# Altium schematic symbol library Passives.SchLib: 43 symbols
Pins are listed as number, name and electrical type; pins without a type are passive.

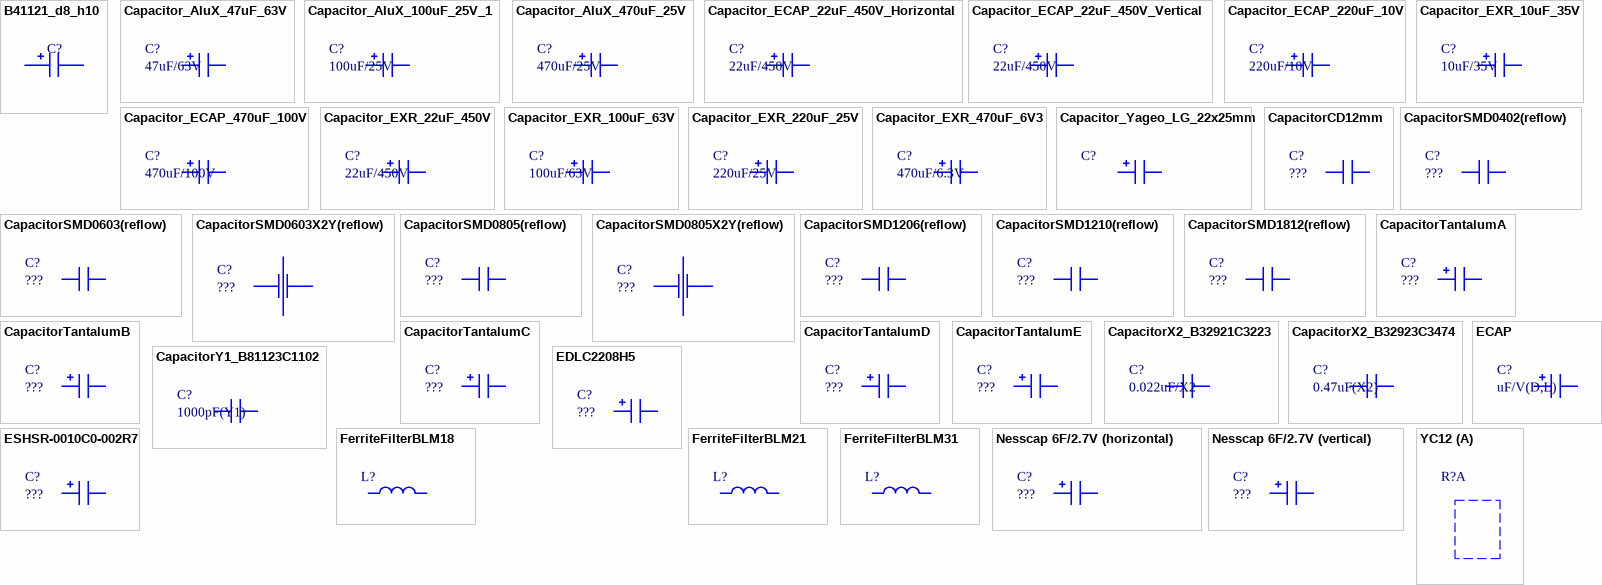
[diagram p0: symbols B41121_d8_h10 to YC12]

## B41121_d8_h10
designator C?
CAPACITOR Aluminum Electrolytic SMD d=8mm h=10mm; x: 100u35V: B41121A7107M000, 100u50v: B41121A6107M000; Описание: Конденсатор SMD; Аналог: *
footprint B41121_d8_h10(manual)
pins: 1, 2

## Capacitor_AluX_47uF_63V
designator C?, comment 47uF/63V
CAPACITOR Capacitor Elecrolytic 47uF 63V; Описание: Конденсатор электролитический; Аналог: нет
footprint CapacitorElectrolyticRadial8x12x3.5mm
pins: 1, 2

## Capacitor_AluX_100uF_25V_1
designator C?, comment 100uF/25V
CAPACITOR Capacitor Elecrolytic 100uF 25V Epcos B41828A5477M; Описание: Конденсатор электролитический 6.3x11x2.5мм; Аналог: нет
footprint CapacitorElectrolyticRadial6.3x11x2.5mm - duplicate
pins: 1, 2

## Capacitor_AluX_470uF_25V
designator C?, comment 470uF/25V
CAPACITOR Capacitor Elecrolytic 470uF 25V Epcos B41828A5477M; Описание: Конденсатор электролитический; Аналог: нет
footprint CapacitorElectrolyticRadial10x16x5mm
pins: 1, 2

## Capacitor_ECAP_22uF_450V_Horizontal
designator C?, comment 22uF/450V
CAPACITOR Capacitor Elecrolytic ECAP 22uF 450V; Описание: Конденсатор электролитический 16x25x7.5мм; Аналог: нет
footprint CapacitorElectrolyticRadial16x25x7.5mmHorizontal - duplicate
pins: 1, 2

## Capacitor_ECAP_22uF_450V_Vertical
designator C?, comment 22uF/450V
CAPACITOR Capacitor Elecrolytic ECAP 22uF 450V; Описание: Конденсатор электролитический; Аналог: нет
footprint CapacitorElectrolyticRadial16x25x7.5mmVertical
pins: 1, 2

## Capacitor_ECAP_220uF_10V
designator C?, comment 220uF/10V
CAPACITOR Capacitor Elecrolytic ECAP 220uF 10V (6.3x11mm); Описание: Конденсатор электролитический; Аналог: нет
footprint CapacitorElectrolyticRadial6.3x11x2.5mm
pins: 1, 2

## Capacitor_ECAP_470uF_100V
designator C?, comment 470uF/100V
CAPACITOR Capacitor Elecrolytic ECAP 470uF 100V (16x25mm); Описание: Конденсатор электролитический; Аналог: нет
footprint CapacitorElectrolyticRadial16x25x7.5mmVertical
footprint CapacitorElectrolyticRadial16x25x7.5mmHorizontal
pins: 1, 2

## Capacitor_EXR_10uF_35V
designator C?, comment 10uF/35V
CAPACITOR Capacitor Elecrolytic Hitano EXR 10uF 35V; Описание: Конденсатор электролитический 5x11x2мм; Аналог: нет
footprint CapacitorElectrolyticRadial5x11x2mm
pins: 1, 2

## Capacitor_EXR_22uF_450V
designator C?, comment 22uF/450V
CAPACITOR Capacitor Elecrolytic Hitano EXR 22uF 450V; Описание: Конденсатор электролитический 13x26x5мм; Аналог: нет
footprint CapacitorElectrolyticRadial13x26x5mmHorizontal
footprint CapacitorElectrolyticRadial13x26x5mm
pins: 1, 2

## Capacitor_EXR_100uF_63V
designator C?, comment 100uF/63V
CAPACITOR Capacitor Elecrolytic Hitano EXR 100uF 63V; Описание: Конденсатор электролитический 10x16x5мм; Аналог: нет
footprint CapacitorElectrolyticRadial10x16x5mm
pins: 1, 2

## Capacitor_EXR_220uF_25V
designator C?, comment 220uF/25V
CAPACITOR Capacitor Elecrolytic Hitano EXR 220uF 25V; Описание: Конденсатор электролитический 8x12x3.5мм; Аналог: нет
footprint CapacitorElectrolyticRadial8x12x3.5mm
pins: 1, 2

## Capacitor_EXR_470uF_6V3
designator C?, comment 470uF/6.3V
CAPACITOR Capacitor Elecrolytic Hitano EXR 470uF 6.3V; Описание: Конденсатор электролитический; Аналог: нет
footprint CapacitorElectrolyticRadial8x12x3.5mm
pins: 1, 2

## Capacitor_Yageo_LG_22x25mm
designator C?
CAPACITOR Capacitor Elecrolytic; Описание: Конденсатор электролитический; Аналог: нет
footprint Yageo LG 22x25mm
pins: 1, 2

## CapacitorCD12mm
designator C?, comment ???
CAPACITOR High voltage disk ceramic capacitor HITANO; Аналог: нет; Описание: ???
footprint CapacitorCeramicDisk12mm
pins: 1, 2

## CapacitorSMD0402(reflow)
designator C?, comment ???
CAPACITOR  SMD 0402; Описание: Конденсатор SMD 0402; Аналог: нет
footprint CapacitorSMD0402(reflow)
pins: 1, 2

## CapacitorSMD0603(reflow)
designator C?, comment ???
CAPACITOR Capacitor SMD 0603 1.6x0.8mm; Описание: Конденсатор SMD 0603; Аналог: нет
footprint CapacitorSMD0603(reflow)
footprint CapacitorSMD0603(manual)
pins: 1, 2

## CapacitorSMD0603X2Y(reflow)
designator C?, comment ???
CAPACITOR Capacitor SMD X2Y 0603 1.6x0.8mm; Описание: Конденсатор 3-выводной SMD 0603 X2Y; Аналог: нет
footprint CapacitorSMD0603X2Y(reflow)
pins: 1, 2, 3, 4

## CapacitorSMD0805(reflow)
designator C?, comment ???
CAPACITOR Capacitor SMD 0805 2.0x1.2mm; Описание: Конденсатор SMD 0805; Аналог: нет
footprint CapacitorSMD0805(reflow)
pins: 1, 2

## CapacitorSMD0805X2Y(reflow)
designator C?, comment ???
CAPACITOR Capacitor SMD X2Y 0805 2.0x1.2mm; Описание: Конденсатор 3-выводной SMD 0603 X2Y; Аналог: нет
footprint CapacitorSMD0805X2Y(reflow)
pins: 1, 2, 3, 4

## CapacitorSMD1206(reflow)
designator C?, comment ???
CAPACITOR Capacitor SMD 1206 3.2x1.6mm; Описание: Конденсатор SMD 1206; Аналог: нет
footprint CapacitorSMD1206(reflow)
pins: 1, 2

## CapacitorSMD1210(reflow)
designator C?, comment ???
CAPACITOR Capacitor SMD 1210 3.2x2.5mm; Описание: Конденсатор SMD 1210; Аналог: нет
footprint CapacitorSMD1210(reflow)
footprint CapacitorSMD1210(reflow/2.5mm)
pins: 1, 2

## CapacitorSMD1812(reflow)
designator C?, comment ???
CAPACITOR Capacitor SMD 1812 4.6x3.2mm; Описание: Конденсатор SMD 1812; Аналог: нет
footprint CapacitorSMD1812(reflow)
pins: 1, 2

## CapacitorTantalumA
designator C?, comment ???
CAPACITOR Capacitor SMD Tantalum A 3.2x1.6mm; Аналог: нет; Описание: ???
pins: 1, 2

## CapacitorTantalumB
designator C?, comment ???
CAPACITOR Capacitor SMD Tantalum B 3.5x2.8mm; Аналог: нет; Описание: ???
pins: 1, 2

## CapacitorTantalumC
designator C?, comment ???
CAPACITOR Capacitor SMD Tantalum C 6.0x3.2mm; Аналог: нет; Описание: ???
pins: 1, 2

## CapacitorTantalumD
designator C?, comment ???
CAPACITOR Capacitor SMD Tantalum D 7.3x4.3mm; Аналог: нет; Описание: ???
footprint CapacitorTantalumD
pins: 1, 2

## CapacitorTantalumE
designator C?, comment ???
CAPACITOR Capacitor SMD Tantalum E 7.3x4.3mm; Аналог: нет; Описание: ???
footprint CapacitorTantalumE
pins: 1, 2

## CapacitorX2_B32921C3223
designator C?, comment 0.022uF/X2
CAPACITOR EMI X2 B32921C3223; Описание: Конденсатор X2; Аналог: нет
footprint CapacitorX2_B32921C3223
pins: 1, 2

## CapacitorX2_B32923C3474
designator C?, comment 0.47uF(X2)
CAPACITOR EMI Suppression Capacitor (MKP) X2 B32923C3474; Описание: Конденсатор X2; Аналог: нет
footprint CapacitorX2_B32923C3474
pins: 1, 2

## CapacitorY1_B81123C1102
designator C?, comment 1000pF(Y1)
CAPACITOR EMI Suppression Capacitor (MKP) Y1 B81123C1102; Описание: Конденсатор Y1; Аналог: нет
footprint CapacitorY1_B81123C1102
pins: 1, 2

## ECAP
designator C?, comment uF/V(D,L)
CAPACITOR ECAP generic; Описание: Конденсатор электролитический; Аналог: нет; x: *
footprint ECAP_D10_L19.5_VERTICAL
pins: 1, 2

## EDLC2208H5
designator C?, comment ???
CAPACITOR EDLC 1.5F 5.5V (elna,panasonic,korchip,...); Аналог: нет; Описание: ???
footprint EDLC2208H5
pins: 1, 2

## ESHSR-0010C0-002R7
designator C?, comment ???
CAPACITOR Supercapacitor 10F; Аналог: нет; Описание: ???
footprint ESHSR-0010C0-002R7
pins: 1, 2

## FerriteFilterBLM18
designator L?  (value not drawn)
MAGNETIC BLM18 series ferrite bead SMD 0603; Описание: Фильтр SMD 0603; Аналог: нет
footprint InductorSMD0603(reflow)
footprint InductorSMD0603(manual)
pins: 1, 2

## FerriteFilterBLM21
designator L?  (value not drawn)
MAGNETIC BLM21 series ferrite bead SMD 0805; Описание: Фильтр SMD 0805; Аналог: нет
footprint InductorSMD0805(reflow)
pins: 1, 2

## FerriteFilterBLM31
designator L?  (value not drawn)
MAGNETIC BLM31 series ferrite bead SMD 1206; Описание: Фильтр SMD 1206; Аналог: нет
footprint InductorSMD1206(reflow)
pins: 1, 2

## Nesscap 6F/2.7V (horizontal)
designator C?, comment ???
CAPACITOR Nesscap 6F/2.7V (horizontal); Аналог: нет; Описание: ???
footprint Nesscap 6F/2.7V (horizontal)
pins: 1, 2

## Nesscap 6F/2.7V (vertical)
designator C?, comment ???
CAPACITOR Nesscap 6F/2.7V (vertical); Аналог: нет; Описание: ???
footprint Nesscap 6F/2.7V (vertical)
pins: 1, 2

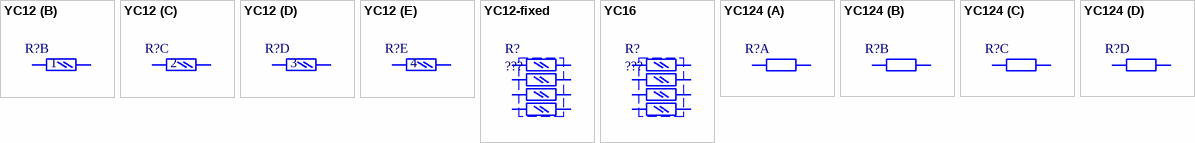
[diagram p1: symbols YC12 to YC124]

## YC12
designator R?, comment ???  (value not drawn)
RESISTOR Quad Resistor Array , 0.5mm pitch; Аналог: нет; Описание: ???
footprint YC12
part B pins: 1, 8
part C pins: 2, 7
part D pins: 3, 6
part E pins: 4, 5

## YC12-fixed
designator R?, comment ???
RESISTOR Quad Resistor Array 0.5mm pitch; Аналог: нет; Описание: ???
footprint YC12
pins: 1, 2, 3, 4, 5, 6, 7, 8

## YC16
designator R?, comment ???
RESISTOR Quad Resistor Array , 0.8mm pitch; Аналог: нет; Описание: ???
footprint YC16
pins: 1, 2, 3, 4, 5, 6, 7, 8

## YC124
designator R?
RESISTOR Quad Resistor Array , 0.5mm pitch; Описание: ???; Аналог: нет
footprint YC124
part A pins: 1A, 2A
part B pins: 1B, 2B
part C pins: 1C, 2C
part D pins: 1D, 2D